# Altium footprint library TO-247-2.PcbLib: 1 footprints
Each footprint in its own frame and in the unit in brackets; x right, y up, seen from the top. Pads: shape width x height; smd on the part's side, far side on the other; paste and mask are expansions set on the pad; w line width, h text height; cw(c..) or ccw(c..) is an arc to the next point about the centre after c.
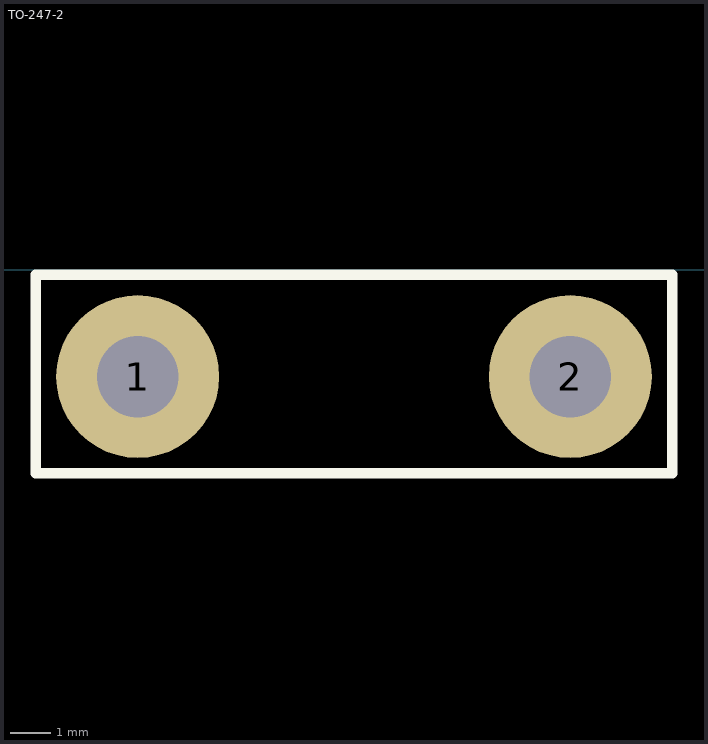
[diagram p0: the footprint, top view; thin cyan lines are the x and y axes]

## TO-247-2 [mil]
pads (2):
  round 160 hole 80: 1(210,-105) 2(635,-105)
Top Overlay:
  lines w10: 110,-200 735,-200 735,-5 110,-5 110,-200
Bottom Overlay:
  lines w10: 110,-200 735,-200 735,-5 110,-5 110,-200
3D body "Infineon-PG-TO247-2-2_3D_01_STP-Package-v01_00-EN.stp": height 1200, standoff -422.05, extent 112.95,-202.24 735,-5